# EAGLE library part NFC_MODULE_V3_I2C (library joakim)
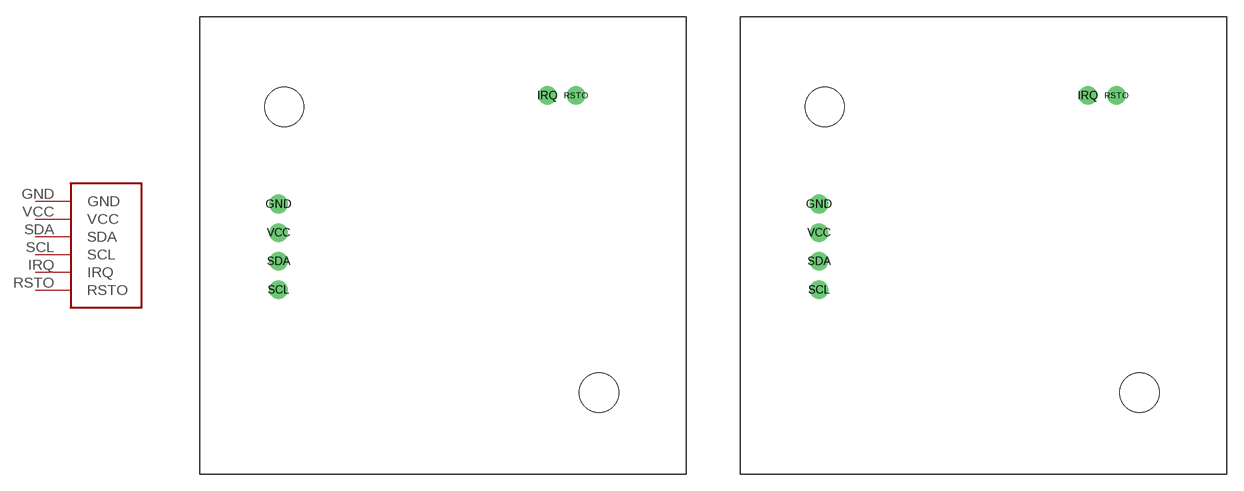
[diagram p32: symbol with the pads of NFC_MODULE_V3_I2C; footprints NFC_MODULE_V3_I2C, NFC_MODULE_V3_I2C_CENTERED]

Designator prefix -

## NFC_MODULE_V3_I2C  [NFC_MODULE_V3_I2C]
GND  GND
IRQ  IRQ
RSTO  RSTO
SCL  SCL
SDA  SDA
VCC  VCC

## NFC_MODULE_V3_I2CC  [NFC_MODULE_V3_I2C_CENTERED]
Pads as for NFC_MODULE_V3_I2C

## Footprint NFC_MODULE_V3_I2C (pad centres in mm)
drill 1.1: GND 0,0; IRQ 23.876,9.652; RSTO 26.416,9.652; SCL 0,-7.62; SDA 0,-5.08; VCC 0,-2.54
hole 3.5 at 0.508,8.636
hole 3.5 at 28.448,-16.764

## Footprint NFC_MODULE_V3_I2C_CENTERED (pad centres in mm)
drill 1.1: GND -14.605,3.683; IRQ 9.271,13.335; RSTO 11.811,13.335; SCL -14.605,-3.937; SDA -14.605,-1.397; VCC -14.605,1.143
hole 3.5 at -14.097,12.319
hole 3.5 at 13.843,-13.081